# EAGLE library part I2C (library I2C)
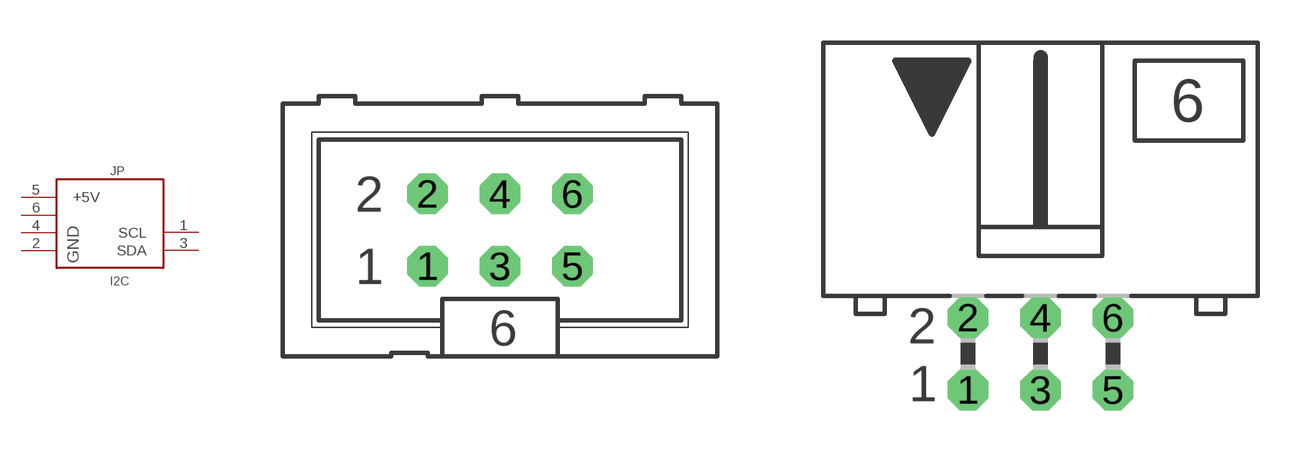
[diagram p0: symbol with the pads of ML6; footprints ML6, ML6L]

Designator prefix JP

## I2C  [ML6]
1  SCL
2  GND$3
3  SDA
4  GND$2
5  +5V
6  GND$1

## I2CL  [ML6L]
Pads as for ML6

## Footprint ML6 (pad centres in mm)
HARTING
drill 0.914 octagon: 1 -2.54,-1.27; 2 -2.54,1.27; 3 0,-1.27; 4 0,1.27; 5 2.54,-1.27; 6 2.54,1.27

## Footprint ML6L (pad centres in mm)
HARTING
drill 0.914 octagon: 1 -2.54,-1.27; 2 -2.54,1.27; 3 0,-1.27; 4 0,1.27; 5 2.54,-1.27; 6 2.54,1.27